# Altium schematic symbol library HDR_1X6_2MP.SchLib: 1 symbol
Pins are listed as number, name and electrical type; pins without a type are passive.

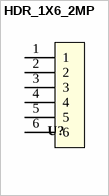
[diagram p0: symbol HDR_1X6_2MP]

## HDR_1X6_2MP
designator U?
pins: 1, 2, 3, 4, 5, 6